# EAGLE library part CC6-1203SR-E (library CC6-1203SR-E)
DC-DC Converters, On-board type, Output: 3.96W, 3.3V, Isolated type, Option: SMD type Source: Datasheet <https://product.tdk.com/system/files/dam/doc/product/power/switching-power/dc-dc-converter/catalog/cc-e_e.pdf>
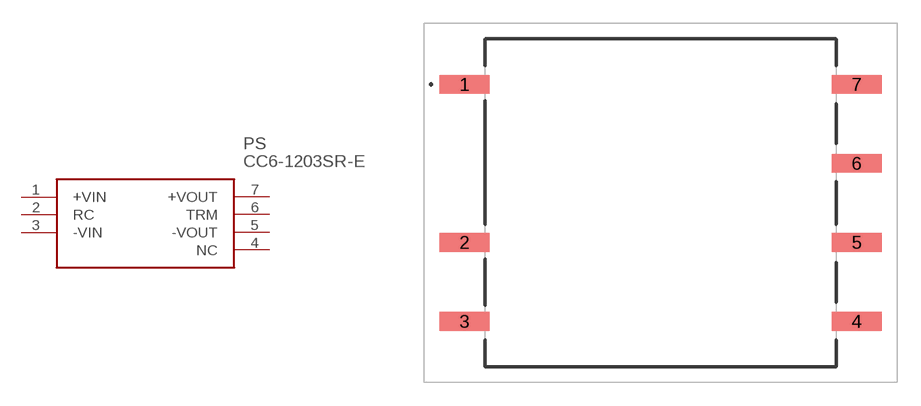
[diagram p0: symbol with the pads of CC60512SRE; footprint CC60512SRE]

Designator prefix PS

## CC6-1203SR-E (Arrow_Part_Number: CC6-1203SR-E; Arrow_Price-Stock: https://www.arrow.com/en/products/cc6-1203sr-e/tdk-lambda-americas?region=nac; Description: DC-DC Converters, On-board type, Output: 3.96W, 3.3V, Isolated type, Option: SMD type; Height: 8.8mm; Manufacturer_Name: TDK; Manufacturer_Part_Number: CC6-1203SR-E; Mouser_Part_Number: 967-CC6-1203SR-E; Mouser_Price-Stock: https://www.mouser.co.uk/ProductDetail/TDK-Lambda/CC6-1203SR-E?qs=Vwh6e7toGLi4J%2FzloL2n3g%3D%3D)  [CC60512SRE]
1  +VIN
2  RC
3  -VIN
4  NC  nc
5  -VOUT
6  TRM
7  +VOUT

## Footprint CC60512SRE (pad centres in mm)
CC6-0512SR-E-4
smd 3.2 x 1.2: 1 -12.6,7.62; 2 -12.6,-2.54; 3 -12.6,-7.62; 4 12.6,-7.62; 5 12.6,-2.54; 6 12.6,2.54; 7 12.6,7.62